# Altium footprint library ULN2803A.PcbLib: 3 footprints
Each footprint in its own frame and in the unit in brackets; x right, y up, seen from the top. Pads: shape width x height; smd on the part's side, far side on the other; paste and mask are expansions set on the pad; w line width, h text height; cw(c..) or ccw(c..) is an arc to the next point about the centre after c.
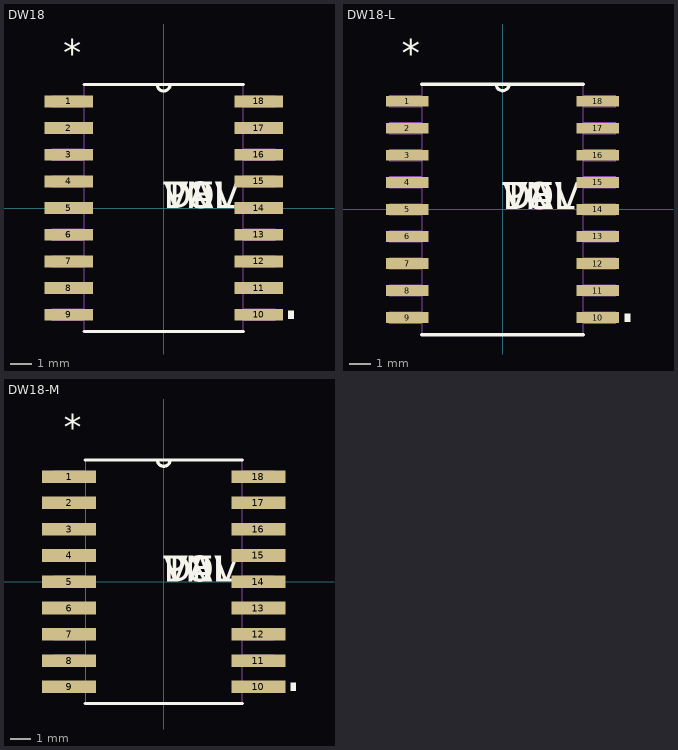
[diagram p0: the footprints below, top view; thin cyan lines are the x and y axes]

## DW18 [mil]
pads (18):
  rect 91x22 smd: 1(-178,200) 2(-178,150) 3(-178,100) 4(-178,50) 5(-178,0) 6(-178,-50) 7(-178,-100) 8(-178,-150) 9(-178,-200) 10(178,-200) 11(178,-150) 12(178,-100) 13(178,-50) 14(178,0) 15(178,50) 16(178,100) 17(178,150) 18(178,200)
Top Overlay:
  region: 233.5,-192.5 243.5,-192.5 243.5,-207.5 233.5,-207.5
  lines w6: -149.5,-231.5 149.5,-231.5 ; -149.5,231.5 149.5,231.5 ; -12,231.5 ccw(c0,231.5) 12,231.5
  text "*" at -188,267 h50
  text "PN" at 0,0 h50
  text "DEV" at 0,0 h50
  text "VAL" at 0,0 h50
  text "TOL" at 0,0 h50
Mechanical 1:
  lines w0: -12,231.5 ccw(c0,231.5) 12,231.5 ; -209.5,-210 -209.5,-190 -149.5,-190 -149.5,-210 -209.5,-210 ; -209.5,-160 -209.5,-140 -149.5,-140 -149.5,-160 -209.5,-160 ; -209.5,-110 -209.5,-90 -149.5,-90 -149.5,-110 -209.5,-110 ; -209.5,-60 -209.5,-40 -149.5,-40 -149.5,-60 -209.5,-60 ; -209.5,-10 -209.5,10 -149.5,10 -149.5,-10 -209.5,-10 ; -209.5,40 -209.5,60 -149.5,60 -149.5,40 -209.5,40 ; -209.5,90 -209.5,110 -149.5,110 -149.5,90 -209.5,90 ; -209.5,140 -209.5,160 -149.5,160 -149.5,140 -209.5,140 ; -209.5,190 -209.5,210 -149.5,210 -149.5,190 -209.5,190 ; -149.5,-231.5 149.5,-231.5 149.5,231.5 -149.5,231.5 -149.5,-231.5 ; 149.5,-210 149.5,-190 209.5,-190 209.5,-210 149.5,-210 ; 149.5,-160 149.5,-140 209.5,-140 209.5,-160 149.5,-160 ; 149.5,-110 149.5,-90 209.5,-90 209.5,-110 149.5,-110 ; 149.5,-60 149.5,-40 209.5,-40 209.5,-60 149.5,-60 ; 149.5,-10 149.5,10 209.5,10 209.5,-10 149.5,-10 ; 149.5,40 149.5,60 209.5,60 209.5,40 149.5,40 ; 149.5,90 149.5,110 209.5,110 209.5,90 149.5,90 ; 149.5,140 149.5,160 209.5,160 209.5,140 149.5,140 ; 149.5,190 149.5,210 209.5,210 209.5,190 149.5,190
  text "*" at -188,267 h50
  text "RefDes2" at 0,0 h50

## DW18-L [mil]
pads (18):
  rect 79x20 smd: 1(-176,200) 2(-176,150) 3(-176,100) 4(-176,50) 5(-176,0) 6(-176,-50) 7(-176,-100) 8(-176,-150) 9(-176,-200) 10(176,-200) 11(176,-150) 12(176,-100) 13(176,-50) 14(176,0) 15(176,50) 16(176,100) 17(176,150) 18(176,200)
Top Overlay:
  region: 225.5,-192.5 235.5,-192.5 235.5,-207.5 225.5,-207.5
  lines w6: -149.5,-231.5 149.5,-231.5 ; -149.5,231.5 149.5,231.5 ; -12,231.5 ccw(c0,231.5) 12,231.5
  text "*" at -186,265 h50
  text "PN" at 0,0 h50
  text "DEV" at 0,0 h50
  text "VAL" at 0,0 h50
  text "TOL" at 0,0 h50
Mechanical 1:
  lines w0: -12,231.5 ccw(c0,231.5) 12,231.5 ; -209.5,-210 -209.5,-190 -149.5,-190 -149.5,-210 -209.5,-210 ; -209.5,-160 -209.5,-140 -149.5,-140 -149.5,-160 -209.5,-160 ; -209.5,-110 -209.5,-90 -149.5,-90 -149.5,-110 -209.5,-110 ; -209.5,-60 -209.5,-40 -149.5,-40 -149.5,-60 -209.5,-60 ; -209.5,-10 -209.5,10 -149.5,10 -149.5,-10 -209.5,-10 ; -209.5,40 -209.5,60 -149.5,60 -149.5,40 -209.5,40 ; -209.5,90 -209.5,110 -149.5,110 -149.5,90 -209.5,90 ; -209.5,140 -209.5,160 -149.5,160 -149.5,140 -209.5,140 ; -209.5,190 -209.5,210 -149.5,210 -149.5,190 -209.5,190 ; -149.5,-231.5 149.5,-231.5 149.5,231.5 -149.5,231.5 -149.5,-231.5 ; 149.5,-210 149.5,-190 209.5,-190 209.5,-210 149.5,-210 ; 149.5,-160 149.5,-140 209.5,-140 209.5,-160 149.5,-160 ; 149.5,-110 149.5,-90 209.5,-90 209.5,-110 149.5,-110 ; 149.5,-60 149.5,-40 209.5,-40 209.5,-60 149.5,-60 ; 149.5,-10 149.5,10 209.5,10 209.5,-10 149.5,-10 ; 149.5,40 149.5,60 209.5,60 209.5,40 149.5,40 ; 149.5,90 149.5,110 209.5,110 209.5,90 149.5,90 ; 149.5,140 149.5,160 209.5,160 209.5,140 149.5,140 ; 149.5,190 149.5,210 209.5,210 209.5,190 149.5,190
  text "*" at -186,265 h50
  text "RefDes2" at 0,0 h50

## DW18-M [mil]
pads (18):
  rect 103x24 smd: 1(-180,200) 2(-180,150) 3(-180,100) 4(-180,50) 5(-180,0) 6(-180,-50) 7(-180,-100) 8(-180,-150) 9(-180,-200) 10(180,-200) 11(180,-150) 12(180,-100) 13(180,-50) 14(180,0) 15(180,50) 16(180,100) 17(180,150) 18(180,200)
Top Overlay:
  region: 241.5,-192.5 251.5,-192.5 251.5,-207.5 241.5,-207.5
  lines w6: -149.5,-231.5 149.5,-231.5 ; -149.5,231.5 149.5,231.5 ; -12,231.5 ccw(c0,231.5) 12,231.5
  text "*" at -190,269 h50
  text "PN" at 0,0 h50
  text "DEV" at 0,0 h50
  text "VAL" at 0,0 h50
  text "TOL" at 0,0 h50
Mechanical 1:
  lines w0: -12,231.5 ccw(c0,231.5) 12,231.5 ; -209.5,-210 -209.5,-190 -149.5,-190 -149.5,-210 -209.5,-210 ; -209.5,-160 -209.5,-140 -149.5,-140 -149.5,-160 -209.5,-160 ; -209.5,-110 -209.5,-90 -149.5,-90 -149.5,-110 -209.5,-110 ; -209.5,-60 -209.5,-40 -149.5,-40 -149.5,-60 -209.5,-60 ; -209.5,-10 -209.5,10 -149.5,10 -149.5,-10 -209.5,-10 ; -209.5,40 -209.5,60 -149.5,60 -149.5,40 -209.5,40 ; -209.5,90 -209.5,110 -149.5,110 -149.5,90 -209.5,90 ; -209.5,140 -209.5,160 -149.5,160 -149.5,140 -209.5,140 ; -209.5,190 -209.5,210 -149.5,210 -149.5,190 -209.5,190 ; -149.5,-231.5 149.5,-231.5 149.5,231.5 -149.5,231.5 -149.5,-231.5 ; 149.5,-210 149.5,-190 209.5,-190 209.5,-210 149.5,-210 ; 149.5,-160 149.5,-140 209.5,-140 209.5,-160 149.5,-160 ; 149.5,-110 149.5,-90 209.5,-90 209.5,-110 149.5,-110 ; 149.5,-60 149.5,-40 209.5,-40 209.5,-60 149.5,-60 ; 149.5,-10 149.5,10 209.5,10 209.5,-10 149.5,-10 ; 149.5,40 149.5,60 209.5,60 209.5,40 149.5,40 ; 149.5,90 149.5,110 209.5,110 209.5,90 149.5,90 ; 149.5,140 149.5,160 209.5,160 209.5,140 149.5,140 ; 149.5,190 149.5,210 209.5,210 209.5,190 149.5,190
  text "*" at -190,269 h50
  text "RefDes2" at 0,0 h50